# Altium footprint library ISO6721.PCBLIB: 2 footprints
Each footprint in its own frame and in the unit in brackets; x right, y up, seen from the top. Pads: shape width x height; smd on the part's side, far side on the other; paste and mask are expansions set on the pad; w line width, h text height; cw(c..) or ccw(c..) is an arc to the next point about the centre after c.
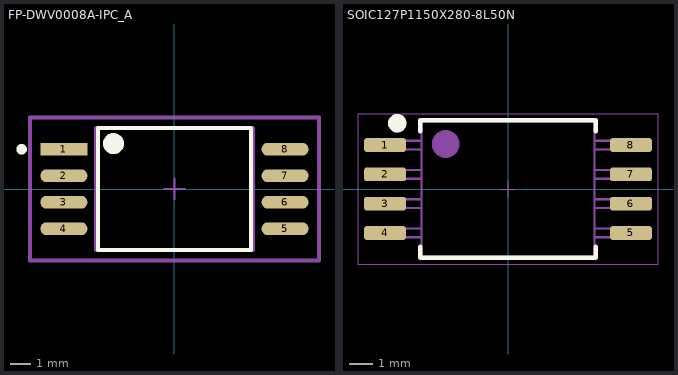
[diagram p0: the footprints below, top view; thin cyan lines are the x and y axes]

## FP-DWV0008A-IPC_A [mil]
pads (8):
  rect 88.74x24.49 smd paste+0 mask+0: 1(-208.68,75)
  rrect100% 88.74x24.49 smd paste+0 mask+0: 2(-208.68,25) 3(-208.68,-25) 4(-208.68,-75) 5(208.68,-75) 6(208.68,-25) 7(208.68,25) 8(208.68,75)
Top Overlay:
  circle w9.84: c-288.48,75 r4.92
  circle w19.68: c-115.1,85.63 r9.84
  lines w7.87: -144.63,-115.16 -144.63,115.16 144.63,115.16 144.63,-115.16 -144.63,-115.16
Top Assembly:
  lines w7.87: -147.64,-115.16 -147.64,115.16 147.64,115.16 147.64,-115.16 -147.64,-115.16
Top Courtyard:
  lines w7.87: -272.74,-134.84 -272.74,134.84 272.74,134.84 272.74,-134.84 -272.74,-134.84
Top Designator:
  text ".Designator" at 0,7.39 h39.37
Top Component Center:
  lines w3.94: -19.68,0 19.68,0 ; 0,-19.68 0,19.68
3D body "IC_Texas_Instruments_ISO6720QDWVRQ1_eec.STEP": height 10, standoff 0, extent -272.74,-134.84 272.74,134.84

## SOIC127P1150X280-8L50N [mm] "Small Outline IC (SOIC), 1.27 mm pitch; 8 pin, 5.85 mm L X 7.50 mm W X 2.80 mm H body"
height 2.8
pads (8):
  rrect33% 1.8x0.59 smd: 1(-5.33,1.905) 2(-5.33,0.635) 3(-5.33,-0.635) 4(-5.33,-1.905) 5(5.33,-1.905) 6(5.33,-0.635) 7(5.33,0.635) 8(5.33,1.905)
Top Overlay:
  circle w0.4: c-4.8,2.85 r0.2
  lines w0.2: -3.8,-2.5 -3.8,-2.98 3.8,-2.98 3.8,-2.5 ; -3.8,2.5 -3.8,2.98 3.8,2.98 3.8,2.5
Top Assembly:
  circle w0.6: c-2.7,1.95 r0.3
  lines w0.1: -3.75,-2.095 -5.75,-2.095 -5.75,-1.714 -3.75,-1.714 ; -3.75,-0.826 -5.75,-0.826 -5.75,-0.445 -3.75,-0.445 ; -3.75,0.445 -5.75,0.445 -5.75,0.826 -3.75,0.826 ; -3.75,1.714 -5.75,1.714 -5.75,2.095 -3.75,2.095 ; 3.75,-2.095 5.75,-2.095 5.75,-1.714 3.75,-1.714 ; 3.75,-0.826 5.75,-0.826 5.75,-0.445 3.75,-0.445 ; 3.75,0.445 5.75,0.445 5.75,0.826 3.75,0.826 ; 3.75,1.714 5.75,1.714 5.75,2.095 3.75,2.095 ; -3.75,-2.93 3.75,-2.93 3.75,2.93 -3.75,2.93 -3.75,-2.93
Top Courtyard:
  lines w0.05: -6.5,-3.25 6.5,-3.25 6.5,3.25 -6.5,3.25 -6.5,-3.25
Top Designator:
  text ".Designator" at -0.45,-0.5 h1
Top Component Center:
  lines w0.05: -0.35,0 0.35,0 ; 0,-0.35 0,0.35
3D body "SOIC127P1150X280-8L50N.STEP": height 2.8, standoff 0, extent -5.75,-2.925 5.75,2.925